# EAGLE library part OPA2344 (library Eagle3D-IC_OpAmp)
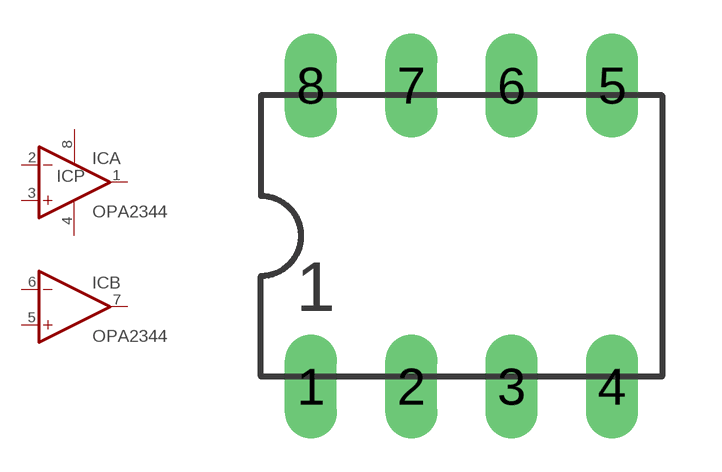
[diagram p3: symbol with the pads of DIL08; footprint DIL08]

Designator prefix IC; gates A=OP-AMP-INVERTED B=OP-AMP-INVERTED P=IC_POWER_PINS

## OPA2344  [DIL08]
1  A:OUT  out
2  A:-IN  in
3  A:+IN  in
4  P:V-  pwr
5  B:+IN  in
6  B:-IN  in
7  B:OUT  out
8  P:V+  pwr

## Footprint DIL08 (pad centres in mm)
drill 0.813 pad 1.27 long: 1 -3.81,-3.81; 2 -1.27,-3.81; 3 1.27,-3.81; 4 3.81,-3.81; 5 3.81,3.81; 6 1.27,3.81; 7 -1.27,3.81; 8 -3.81,3.81